# Altium footprint library HLK-1D12XX.PcbLib: 1 footprints
Each footprint in its own frame and in the unit in brackets; x right, y up, seen from the top. Pads: shape width x height; smd on the part's side, far side on the other; paste and mask are expansions set on the pad; w line width, h text height; cw(c..) or ccw(c..) is an arc to the next point about the centre after c.
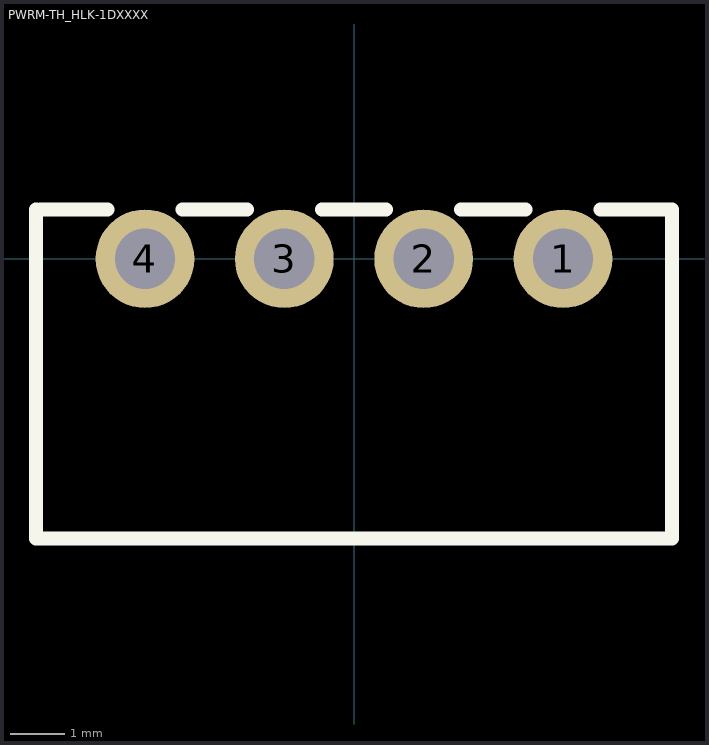
[diagram p0: the footprint, top view; thin cyan lines are the x and y axes]

## PWRM-TH_HLK-1DXXXX [mm]
pads (4):
  round 1.8 hole 1.1: 1(3.81,0) 2(1.27,0) 3(-1.27,0) 4(-3.81,0)
Top Overlay:
  lines w0.254: -5.8,0.9 -5.8,-5.1 5.8,-5.1 5.8,0.9 4.494,0.9 ; -5.715,0.9 -4.494,0.9 ; -3.126,0.9 -1.954,0.9 ; -0.586,0.9 0.586,0.9 ; 1.954,0.9 3.126,0.9